# EAGLE library part 750313739 (library WE-OLTI)
WE-OLTI Offline Flyback Transformers Characteristics Nominal input voltage: 85–265 VAC (120–375 VDC) Small size Low leakage inductance Multiple-output options Operating temperature: −40 °C to +125 °C Isolation Voltage: 2 kVAC to 5 kVAC Options for fixed frequency or quasi-resonant mode operation Most products meet reinforced insulation Applications Industrial controls USB chargers Utility metering devices Process controls Factory automation Security systems Garage door opener auxiliary supplies Home appliances Especially designed for several ICs from Texas Instruments <https://www.we-online.com/components/media/o814034v209%20UtOLTI%20Group%20CGI.jpg> Details see: www.we-online.com/en/components/products/WE-OLTI <www.we-online.com/catalog/WE-OLTI/?utm_source=eagle_model&utm_medium=description_link&utm_campaign=eisos_eagle> Created by Ella Wu 2025-02-06 2025 (C) Wurth Elektronik
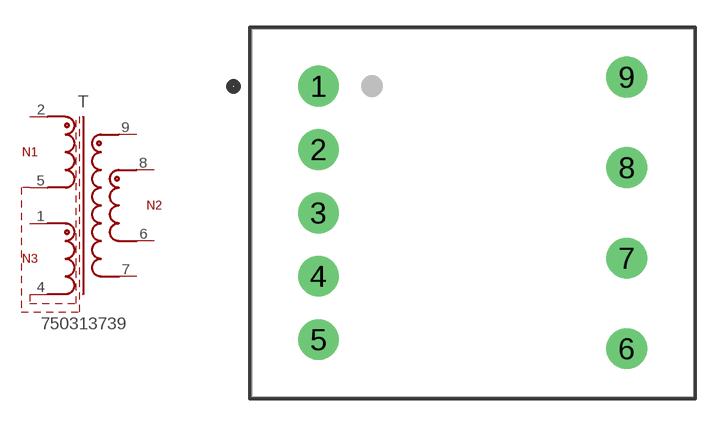
[diagram p27: symbol with the pads of WE-OLTI_EE16/8/5_L20.32W24.38H16; footprint WE-OLTI_EE16/8/5_L20.32W24.38H16]

Designator prefix T

## 750313739 (DATASHEET-URL: https://www.we-online.com/redexpert/spec/750313739?ae; FSWITCH: 115kHz; HEIGHT: 16mm; IOUT1: 1200mA; ISAT: 0.65A; L: 1100uH; LENGTH: 20.32mm; MOUNT: THT; N: 16.5:1:3.5; PART-NUMBER: 750313739; SIZE: EE16/8/5; VALUE: 1100uH; VAUX: 17V; VIN: 85 - 265 V (AC); VOUT1: 5V; VT: 4500V(AC); WIDTH: 24.38mm)  [WE-OLTI_EE16/8/5_L20.32W24.38H16]
1  1  pas
2  2  pas
4  4  pas
5  5  pas
6  6  pas
7  7  pas
8  8  pas
9  9  pas

## Footprint WE-OLTI_EE16/8/5_L20.32W24.38H16 (pad centres in mm)
WE-OLTI Offline Flyback Transformers Size: EE16/8/5,THT,9pins LXWXH=20.32X24.38X16mm Bobbin: 070-5280
drill 1.5: 1 -8.5,7; 2 -8.5,3.5; 3 -8.5,0; 4 -8.5,-3.5; 5 -8.5,-7; 6 8.5,-7.5; 7 8.5,-2.5; 8 8.5,2.5; 9 8.5,7.5